# Altium schematic symbol library moo-moo-FOC.SchLib: 17 symbols
Pins are listed as number, name and electrical type; pins without a type are passive.

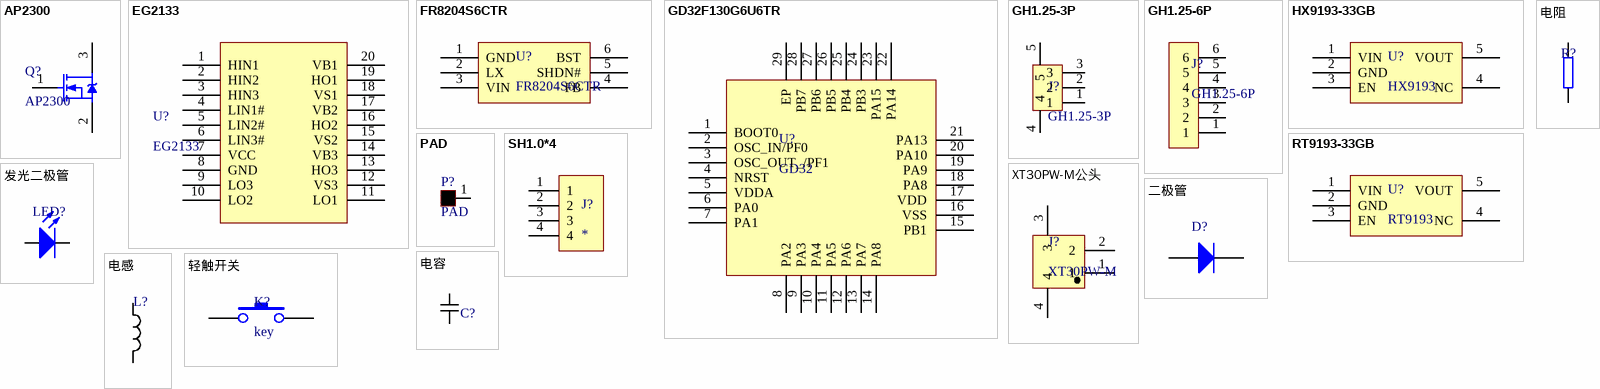
[diagram p0: symbols AP2300 to 轻触开关]

## AP2300
designator Q?
BOM名称: N沟道场效应管; 8元以下特价购入的买家: 还可以联系卖家远程指导AD软件使用
footprint SOT23-3N (3x1.3x1mm(长宽高))
footprint SOT23-3L (3x1.3x1mm(长宽高))
footprint SOT23-3M (3x1.3x1mm(长宽高))
pins: 1 G, 2 S, 3

## EG2133
designator U?
pins: 1 HIN1, 2 HIN2, 3 HIN3, 4 LIN1#, 5 LIN2#, 6 LIN3#, 7 VCC, 8 GND, 9 LO3, 10 LO2, 11 LO1, 12 VS3, 13 HO3, 14 VB3, 15 VS2, 16 HO2, 17 VB2, 18 VS1, 19 HO1, 20 VB1

## FR8204S6CTR
designator U?
pins: 1 GND, 2 LX, 3 VIN, 4 FB, 5 SHDN#, 6 BST

## GD32F130G6U6TR
designator U?, comment GD32
pins: 1 BOOT0, 2 OSC_IN/PF0, 3 OSC_OUT_/PF1, 4 NRST, 5 VDDA, 6 PA0, 7 PA1, 8 PA2, 9 PA3, 10 PA4, 11 PA5, 12 PA6, 13 PA7, 14 PA8, 15 PB1, 16 VSS, 17 VDD, 18 PA8, 19 PA9, 20 PA10, 21 PA13, 22 PA14, 23 PA15, 24 PB3, 25 PB4, 26 PB5, 27 PB6, 28 PB7, 29 EP

## GH1.25-3P
designator J?
pins: 1, 2, 3, 4, 5

## GH1.25-6P
designator J?
pins: 1, 2, 3, 4, 5, 6

## HX9193-33GB
designator U?, comment HX9193
pins: 1 VIN, 2 GND, 3 EN, 4 NC, 5 VOUT

## PAD
designator P?
pins: 1

## RT9193-33GB
designator U?, comment RT9193
pins: 1 VIN, 2 GND, 3 EN, 4 NC, 5 VOUT

## SH1.0*4
designator J?
pins: 1, 2, 3, 4

## XT30PW-M公头
designator J?, comment XT30PW-M
pins: 1, 2, 3, 4

## 二极管
designator D?  (value not drawn)
通用二极管
footprint 二极管1N4007MIL:42：360 (适用于内径小于42mil,管身长小于360mil的二极管)
pins: 1 A, 2 K

## 发光二极管
designator LED?  (value not drawn)
footprint 发光二极管MIL:42:125 (适用于内径小于42mil,管脚间距小于125mil的发光二极管)
footprint LED0603
pins: 1, 2

## 电容
designator C?, comment Cap  (value not drawn)
无极性贴片电容
footprint C0805
footprint CAP-0.1
footprint CAP-0.2
pins: 1, 2

## 电感
designator L?  (value not drawn)
普通电感; Code_IEC: 1005; Published: 8-Jun-2000; LatestRevisionDate: 29-May-2009; LatestRevisionNote: IPC-7351 Footprint Added.; PackageReference: 0402-A; Publisher: Altium Limited; PackageDescription: Chip Inductor; Code_JEITA: 0402
footprint L0805
pins: 1, 2

## 电阻
designator R?  (value not drawn)
footprint R0.4
footprint R0805
pins: 1, 2

## 轻触开关
designator K?, comment key
按键
footprint BT -2
pins: 1, 2